# Altium schematic symbol library RF Transceiver Modules and Modems.SchLib: 2 symbols
Pins are listed as number, name and electrical type; pins without a type are passive.

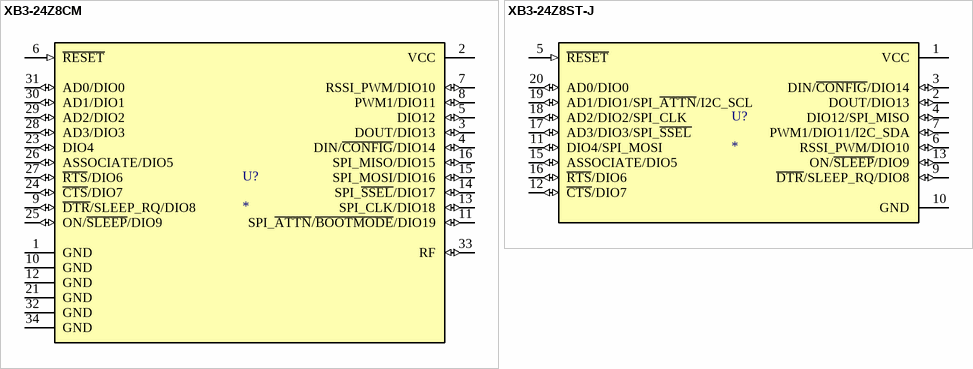
[diagram p0: symbols XB3-24Z8CM to XB3-24Z8ST-J]

## XB3-24Z8CM
designator U?
RF TXRX MODULE 802.15.4 CHIP SMD; Supplier 1: Digi-Key; Supplier 2: Farnell; Supplier 3: Mouser; Supplier Part Number 1: 602-2132-ND; Supplier Part Number 2: 3529960; Supplier Part Number 3: 888-XB3-24Z8CM
footprint XB3-24Z8CM
pins: 1 GND (power), 2 VCC (power), 3 DOUT/DIO13 (io), 4 DIN/~{CONFIG}/DIO14 (io), 5 DIO12 (io), 6 ~{RESET} (in), 7 RSSI_PWM/DIO10 (io), 8 PWM1/DIO11 (io), 9 ~{DTR}/SLEEP_RQ/DIO8 (io), 10 GND (power), 11 SPI_~{ATTN}/~{BOOTMODE}/DIO19 (io), 12 GND (power), 13 SPI_CLK/DIO18 (io), 14 SPI_~{SSEL}/DIO17 (io), 15 SPI_MOSI/DIO16 (io), 16 SPI_MISO/DIO15 (io), 21 GND (power), 23 DIO4 (io), 24 ~{CTS}/DIO7 (io), 25 ON/~{SLEEP}/DIO9 (io), 26 ASSOCIATE/DIO5 (io), 27 ~{RTS}/DIO6 (io), 28 AD3/DIO3 (io), 29 AD2/DIO2 (io), 30 AD1/DIO1 (io), 31 AD0/DIO0 (io), 32 GND (power), 33 RF (io), 34 GND (power)

## XB3-24Z8ST-J
designator U?
RF TXRX MOD 802.15.4 RPSMA TH; Supplier 1: Farnell; Supplier 2: Mouser; Supplier Part Number 1: 3529969; Supplier Part Number 2: 888-XB3-24Z8ST-J
footprint XB3-24Z8ST-J
pins: 1 VCC (power), 2 DOUT/DIO13 (io), 3 DIN/~{CONFIG}/DIO14 (io), 4 DIO12/SPI_MISO (io), 5 ~{RESET} (in), 6 RSSI_PWM/DIO10 (io), 7 PWM1/DIO11/I2C_SDA (io), 9 ~{DTR}/SLEEP_RQ/DIO8 (io), 10 GND (power), 11 DIO4/SPI_MOSI (io), 12 ~{CTS}/DIO7 (io), 13 ON/~{SLEEP}/DIO9 (io), 15 ASSOCIATE/DIO5 (io), 16 ~{RTS}/DIO6 (io), 17 AD3/DIO3/SPI_~{SSEL} (io), 18 AD2/DIO2/SPI_CLK (io), 19 AD1/DIO1/SPI_~{ATTN}/I2C_SCL (io), 20 AD0/DIO0 (io)